# Altium schematic symbol library CHS.SchLib: 19 symbols
Pins are listed as number, name and electrical type; pins without a type are passive.

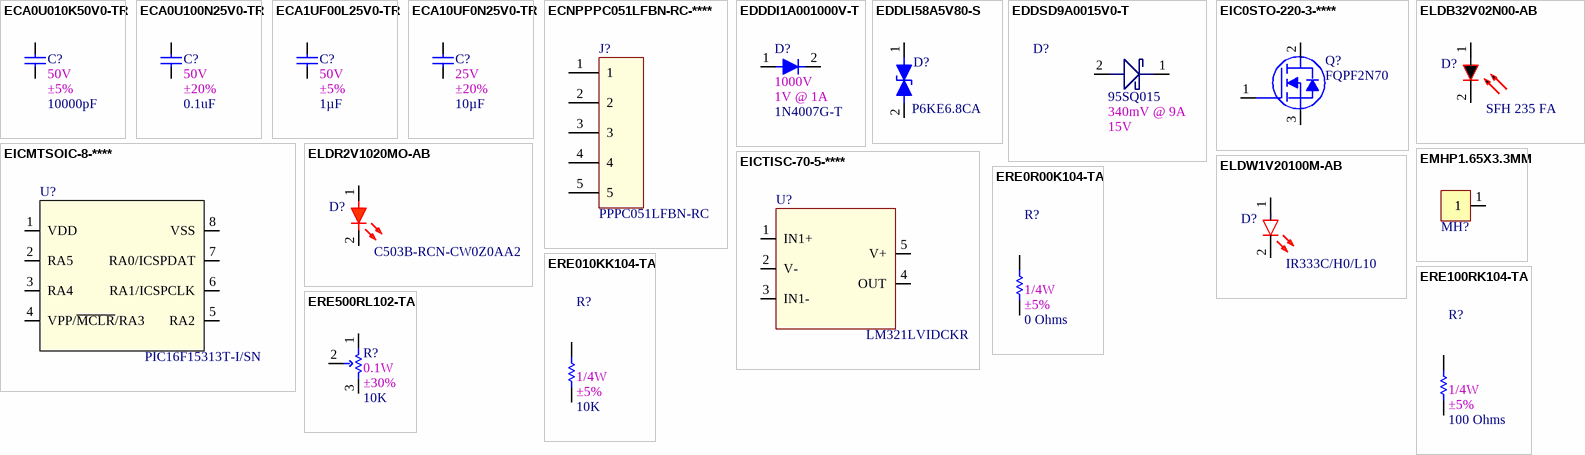
[diagram p0: symbols ECA0U010K50V0-TR to ERE500RL102-TA]

## ECA0U010K50V0-TR
designator C?, comment value 10000pF  1st Auxiliary Field: 50V  2nd Auxiliary Field: ±5%  (hidden comment: CAP FILM 10000PF 5% 50VDC RADIAL)
Manufacturer: Nichicon; Vendor Part Number: 493-14708-1-ND; Manufacturer Part Number: QYX1H103JTP3TA; Internal Part Number: ECA0U010K50V0-TR; Vendor Name: Digi-Key; 3rd Auxiliary Field: ROHS3 Compliant; Component Height (mm): 8.50mm; Temp Co: -40°C ~ 85°C; Part Type: CAP FILM 10000PF 5% 50VDC RADIAL
footprint CAPRR350W50L600T350H850P (CAP FILM 10000PF 5% 50VDC RADIAL)
pins: 1, 2

## ECA0U100N25V0-TR
designator C?, comment value 0.1uF  1st Auxiliary Field: 50V  2nd Auxiliary Field: ±20%  (hidden comment: CAP CER 0.1UF 50V Z5U RADIAL)
Manufacturer: KEMET; Vendor Part Number: 399-9859-1-ND; Manufacturer Part Number: C315C104M5U5TA7303; Internal Part Number: ECA0U100N25V0-TR; Vendor Name: Digi-Key; Component Height (mm): 4.66mm; Temp Co: -10°C ~ 85°C; Part Type: CAP CER 0.1UF 50V Z5U RADIAL
footprint CAPRR254W55L381T254H466P (CAP CER 0.1UF 50V Z5U RADIAL)
pins: 1, 2

## ECA1UF00L25V0-TR
designator C?, comment value 1µF  1st Auxiliary Field: 50V  2nd Auxiliary Field: ±5%  (hidden comment: CAP CER 1UF 25V X7R RADIAL)
Manufacturer: TDK Corporation; Vendor Part Number: 445-173261-1-ND; Manufacturer Part Number: FG18X7R1E105KRT06; Internal Part Number: ECA1UF00L25V0-TR; Vendor Name: Digi-Key; 3rd Auxiliary Field: ROHS3 Compliant; Component Height (mm): 5.00mm; Temp Co: -55°C ~ 125°C; Part Type: CAP CER 1UF 25V X7R RADIAL; 4th Auxiliary Field: *
footprint CAP_FG18X7R1E105KRT06 (CAP CER 1UF 25V X7R RADIAL)
pins: 1, 2

## ECA10UF0N25V0-TR
designator C?, comment value 10µF  1st Auxiliary Field: 25V  2nd Auxiliary Field: ±20%  (hidden comment: CAP CER 10UF 25V X5R RADIAL)
Manufacturer: TDK Corporation; Vendor Part Number: 445-181284-1-ND; Manufacturer Part Number: FG28X5R1E106MRT06; Internal Part Number: ECA10UF0N25V0-TR; Vendor Name: Digi-Key; Component Height (mm): 5.50mm; Temp Co: -55°C ~ 85°C; Part Type: CAP CER 10UF 25V X5R RADIAL
footprint CAP_FG28X5R1E106MRT06 (CAP CER 10UF 25V X5R RADIAL)
pins: 1, 2

## ECNPPPC051LFBN-RC-****
designator J?, comment value PPPC051LFBN-RC  (hidden comment: CONN HDR 5POS 0.1 GOLD PCB)
Manufacturer: Sullins Connector Solutions; Internal Part Number: ECNPPPC051LFBN-RC-****; Vendor Part Number: S7038-ND; 1st Auxiliary Field: 8.51mm; Component Height (mm): 3.20mm; Temp Co: -40°C ~ 105°C; Vendor Name: Digi-Key; 2nd Auxiliary Field: *; 3rd Auxiliary Field: *; 4th Auxiliary Field: *; Part Type: CONN HDR 5POS 0.1 GOLD PCB; Manufacturer Part Number: PPPC051LFBN-RC
footprint SULLINS_PPPC051LFBN-RC (CONN HDR 5POS 0.1 GOLD PCB)
pins: 1, 2, 3, 4, 5

## EDDDI1A001000V-T
designator D?, comment value 1N4007G-T  1st Auxiliary Field: 1000V  2nd Auxiliary Field: 1V @ 1A  (hidden comment: DIODE GEN PURP 1KV 1A DO41)
Manufacturer: Diodes Incorporated; Vendor Part Number: 1N4007GDICT-ND; Internal Part Number: EDDDI1A001000V-T; Vendor Name: Digi-Key; Component Height (mm): 25.40; Temp Co: -65°C ~ 175°C; Part Type: DIODE GEN PURP 1KV 1A DO41; Manufacturer Part Number: 1N4007G-T
footprint DIOAD1070W79L464D236P (DIODE GEN PURP 1KV 1A DO41)
pins: 1 A, 2 K

## EDDLI58A5V80-S
designator D?, comment value P6KE6.8CA  (hidden comment: TVS DIODE 5.8V 10.5V DO204AC)
Manufacturer: Littelfuse Inc.; Vendor Part Number: P6KE6.8CALFCT-ND; Internal Part Number: EDDLI58A5V80-S; Vendor Name: Digi-Key; 3rd Auxiliary Field: RoHS Compliant; Component Height (mm): 25.40; Temp Co: -55°C ~ 175°C (TJ); 2nd Auxiliary Field: 58.1A; Part Type: TVS DIODE 5.8V 10.5V DO204AC; Manufacturer Part Number: P6KE6.8CA; 4th Auxiliary Field: *; 1st Auxiliary Field: 5.8V
footprint DIOAD1310W78L670D310P (TVS DIODE 5.8V 10.5V DO204AC)
pins: 1 K, 2 A

## EDDSD9A0015V0-T
designator D?, comment value 95SQ015  2nd Auxiliary Field: 340mV @ 9A  1st Auxiliary Field: 15V  (hidden comment: DIODE SCHOTTKY 15V 9A DO201AD)
Manufacturer: SMC Diode Solutions; Vendor Part Number: 1655-1922-1-ND; Internal Part Number: EDDSD9A0015V0-T; 3rd Auxiliary Field: RoHS Compliant; Vendor Name: Digi-Key; Component Height (mm): 25.4; Temp Co: -55°C ~ 125°C; Part Type: DIODE SCHOTTKY 15V 9A DO201AD; Manufacturer Part Number: 95SQ015; 4th Auxiliary Field: *
footprint DIOAD2030W125L900D530P (DIODE SCHOTTKY 15V 9A DO201AD)
pins: 1 K, 2 A

## EIC0STO-220-3-****
designator Q?, comment value FQPF2N70  (hidden comment: MOSFET N-CH 700V 2A TO-220F)
Manufacturer: ON Semiconductor; Internal Part Number: EIC0STO-220-3-****; Vendor Part Number: 488-FQPF2N70-ND; 2nd Auxiliary Field: 2A (Tc); 3rd Auxiliary Field: ROHS3 Compliant; Component Height (mm): 29.45mm; Temp Co: -55°C ~ 150°C (TJ); Vendor Name: Digi-Key; Manufacturer Part Number: FQPF2N70; 1st Auxiliary Field: 700V; Part Type: MOSFET N-CH 700V 2A TO-220F; 4th Auxiliary Field: *
footprint MOSFET_FQPF2N70 (MOSFET N-CH 700V 2A TO-220F)
pins: 1 G, 2 D, 3 S

## EICMTSOIC-8-****
designator U?, comment Manufacturer Part Number: PIC16F15313T-I/SN  (hidden comment: IC MCU 8BIT 3.5KB FLASH 8SOIC)
Internal Part Number: EICMTSOIC-8-****; Manufacturer: Microchip Technology; Vendor Part Number: PIC16F15313T-I/SNCT-ND; 3rd Auxiliary Field: RoHS Compliant; Component Height (mm): 1.75; Temp Co: -40°C ~ 85°C (TA); Vendor Name: Digi-Key; Value: PIC16F15313T-I/SN; 1st Auxiliary Field: 2.3V ~ 5.5V; 4th Auxiliary Field: *; Part Type: IC MCU 8BIT 3.5KB FLASH 8SOIC
footprint SOIC127P600X175-8N (Footprint not found)
pins: 1 VDD, 2 RA5, 3 RA4, 4 VPP/~{MCLR}/RA3, 5 RA2, 6 RA1/ICSPCLK, 7 RA0/ICSPDAT, 8 VSS

## EICTISC-70-5-****
designator U?, comment value LM321LVIDCKR  (hidden comment: IC OPAMP GP 1 CIRCUIT SC70-5)
Internal Part Number: EICTISC-70-5-****; Manufacturer: Texas Instruments; Vendor Part Number: 296-53426-1-ND; 1st Auxiliary Field: 2.7V, ±1.35V ~ 5.5V, ±2.75V; 3rd Auxiliary Field: RoHS Compliant; Component Height (mm): 1.45mm; Temp Coefficient: -40°C ~ 125°C (TA); Vendor: Digi-Key; 4th Auxiliary Field: *; Part Type: IC OPAMP GP 1 CIRCUIT SC70-5; Manufacturer Part Number: LM321LVIDCKR
footprint SOP65P210X110-5N (IC OPAMP GP 1 CIRCUIT SC70-5)
pins: 1 IN1+, 2 V- (power), 3 IN1-, 4 OUT, 5 V+

## ELDB32V02N00-AB
designator D?, comment value SFH 235 FA  (hidden comment: SENSOR PHOTODIODE 900NM RADIAL)
Manufacturer: OSRAM Opto Semiconductors Inc.; Vendor Part Number: 475-1433-ND; Internal Part Number: ELDB32V02N00-AB; Vendor Name: Digi-Key; 1st Auxiliary Field: 32V; 2nd Auxiliary Field: 2nA; 3rd Auxiliary Field: RoHS Compliant; Temp Co: -40°C ~ 100°C; Part Type: SENSOR PHOTODIODE 900NM RADIAL; Manufacturer Part Number: SFH 235 FA; 4th Auxiliary Field: *
footprint DIO_SFH 235 FA (SENSOR PHOTODIODE 900NM RADIAL)
pins: 1 A, 2 K

## ELDR2V1020MO-AB
designator D?, comment value C503B-RCN-CW0Z0AA2  (hidden comment: LED RED CLEAR 5MM ROUND T/H)
Manufacturer: Cree Inc.; Vendor Part Number: C503B-RCN-CW0Z0AA2CT-ND; Internal Part Number: ELDR2V1020MO-AB; Vendor Name: Digi-Key; 1st Auxiliary Field: 2.1V; 2nd Auxiliary Field: 20mA; 3rd Auxiliary Field: RoHS Compliant; Component Height (mm): 10.30mm; Temp Co: -40 ~ +100; Part Type: LED RED CLEAR 5MM ROUND T/H; Manufacturer Part Number: C503B-RCN-CW0Z0AA2; 4th Auxiliary Field: *
footprint LEDRD254W50D580H880P (LED RED CLEAR 5MM ROUND T/H)
pins: 1 A, 2 K

## ELDW1V20100M-AB
designator D?, comment value IR333C/H0/L10  (hidden comment: EMITTER IR 940NM 100MA RADIAL)
Manufacturer: Everlight Electronics Co Ltd; Vendor Part Number: 1080-1082-ND; Internal Part Number: ELDW1V20100M-AB; Vendor Name: Digi-Key; 1st Auxiliary Field: 1.2V; 3rd Auxiliary Field: RoHS Compliant; Component Height (mm): 8.6; Temp Co: -40°C ~ 85°C (TA); Part Type: EMITTER IR 940NM 100MA RADIAL; 2nd Auxiliary Field: 100mA; Manufacturer Part Number: IR333C/H0/L10; 4th Auxiliary Field: *
footprint LEDRD254W40D590H1040P (EMITTER IR 940NM 100MA RADIAL)
pins: 1 A, 2 K

## EMHP1.65X3.3MM
designator MH?, comment Mounting hole  (value not drawn)
Internal Part Number: EMHP1.65X3.3MM; Part Type: Mounting hole; Manufacturer: *; Manufacturer Part Number: *
footprint MH_NPTH3.3MM
pins: 1

## ERE0R00K104-TA
designator R?, comment value 0 Ohms  2nd Auxiliary Field: ±5%  1st Auxiliary Field: 1/4W  (hidden comment: RES 1/4W AXIAL)
Manufacturer Part Number: CFR-25-T-52-0R; Manufacturer: Yageo; Internal Part Number: ERE0R00K104-TA; Vendor Part Number: CFR-25-T-52-0R-ND; Component Height (mm): 28mm; 3rd Auxiliary Field: ROHS3 Compliant; Vendor Name: Digi-Key; Temp Co: -55°C ~ 155°C; Part Type: RES 1/4W AXIAL; 4th Auxiliary Field: *
footprint RESAD1070W55L630D240P (RES 1/4W AXIAL)
pins: 1, 2

## ERE010KK104-TA
designator R?, comment value 10K  1st Auxiliary Field: 1/4W  2nd Auxiliary Field: ±5%  (hidden comment: RES 10K OHM 1/4W 5% AXIAL)
Manufacturer Part Number: CF14JT10K0; Manufacturer: Stackpole Electronics Inc; Internal Part Number: ERE010KK104-TA; Vendor Part Number: CF14JT10K0TR-ND; 3rd Auxiliary Field: ROHS3 Compliant; Vendor Name: Digi-Key; Temp Co: -55°C ~ 155°C; Part Type: RES 10K OHM 1/4W 5% AXIAL; 4th Auxiliary Field: *
footprint RESAD1020W55L600D230P (RES 10K OHM 1/4W 5% AXIAL)
pins: 1, 2

## ERE100RK104-TA
designator R?, comment value 100 Ohms  1st Auxiliary Field: 1/4W  2nd Auxiliary Field: ±5%  (hidden comment: RES 100 OHM 1/4W 5% AXIAL)
Manufacturer Part Number: CF14JT100R; Manufacturer: Stackpole Electronics Inc; Internal Part Number: ERE100RK104-TA; Vendor Part Number: CF14JT100RCT-ND; 3rd Auxiliary Field: ROHS3 Compliant; Vendor Name: Digi-Key; Temp Co: -55°C ~ 155°C; Component Height (mm): *; Part Type: RES 100 OHM 1/4W 5% AXIAL; 4th Auxiliary Field: *
footprint RESAD1020W55L600D230P (RES 10K OHM 1/4W 5% AXIAL)
pins: 1, 2

## ERE500RL102-TA
designator R?, comment value 10K  1st Auxiliary Field: 0.1W  2nd Auxiliary Field: ±30%  (hidden comment: POT 10 K OHM LINEAR)
Manufacturer: Amphenol Piher Sensing Systems; Internal Part Number: ERE10KRP110-TA; Manufacturer Part Number: N6L25T3N-103; Vendor Part Number: 1993-1220-1-ND; Component Height (mm): 7.60mm; 3rd Auxiliary Field: RoHS Compliant; Vendor Name: Digi-Key; Temp Co: -25°C + 70°C; Part Type: POT 10 K OHM LINEAR; 4th Auxiliary Field: *
footprint TRIM_N6L25T3N-103 (POT 10 K OHM LINEAR)
pins: 1, 2, 3